# Altium schematic symbol library Pour Over 1.SCHLIB: 28 symbols
Pins are listed as number, name and electrical type; pins without a type are passive.

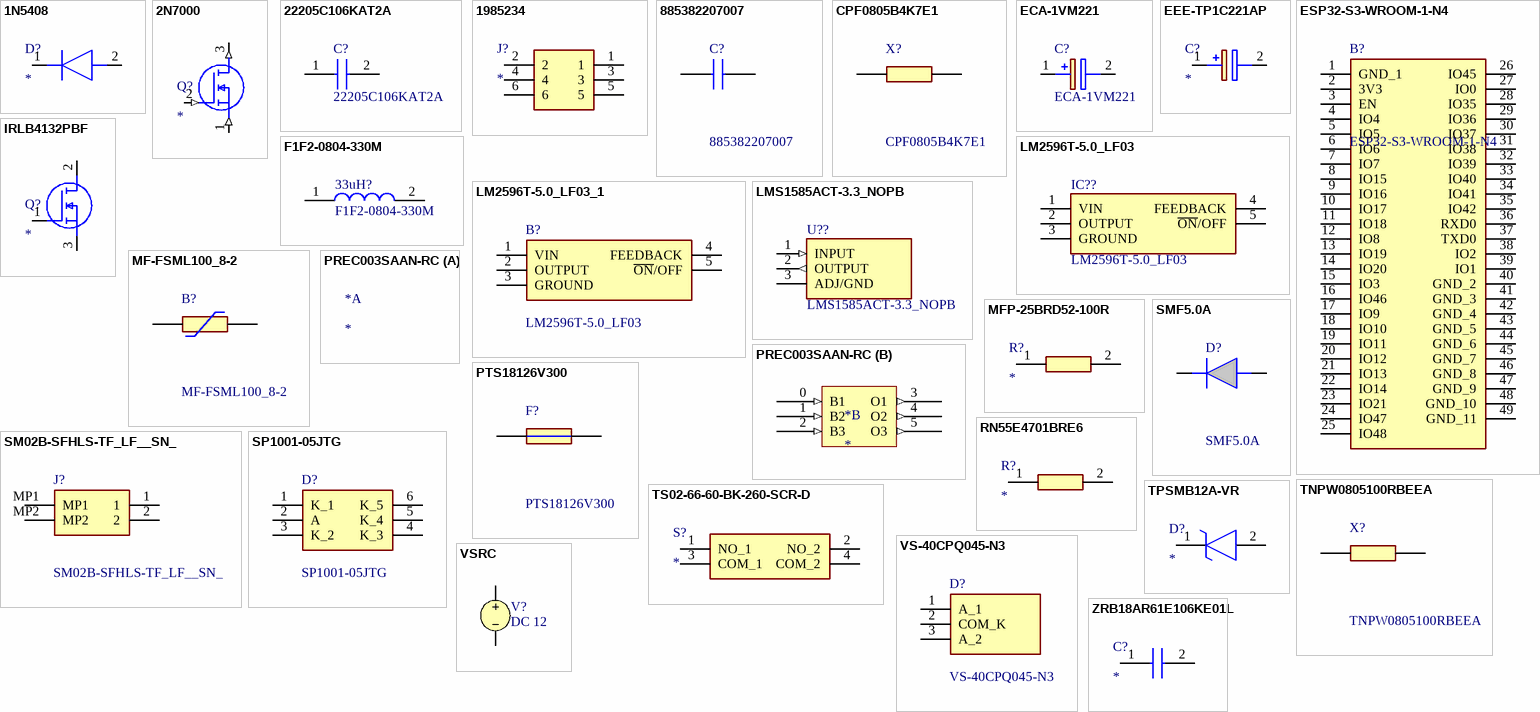
[diagram p0: symbols 1N5408 to ZRB18AR61E106KE01L]

## 1N5408
designator D?
Diode; Manufacturer_Name: HY Electronic; Manufacturer_Part_Number: 1N5408; Description: HY Electronic Corp 1N5408; Datasheet Link: http://uk.rs-online.com/web/p/products/9033315
footprint DIOAD3020W130L900D530
pins: 1 K, 2 A

## 2N7000
designator Q?
MOSFET (N-Channel); Manufacturer_Name: onsemi; Manufacturer_Part_Number: 2N7000; Description: High Density Cell Design for Low RDS(ON); Voltage Controlled Small Signal Switch; High Saturation Current Capability; Rugged and Reliable; Datasheet Link: https://www.onsemi.com/pub/Collateral/NDS7002A-D.PDF; Height: 5.33mm; Mouser Part Number: 512-2N7000; Mouser Price/Stock: https://www.mouser.co.uk/ProductDetail/onsemi-Fairchild/2N7000?qs=FOlmdCx%252BAA2o%2FKZOTk%2F3hg%3D%3D; Arrow Part Number: 2N7000; Arrow Price/Stock: https://www.arrow.com/en/products/2n7000/on-semiconductor.html?utm_currency=USD&region=europe
footprint TO-92_(TO-226)
pins: 1 S (in), 2 G (in), 3 D (out)

## 22205C106KAT2A
designator C?
Capacitor; Manufacturer_Name: Kyocera AVX; Datasheet Link: https://spicat.kyocera-avx.com/product/mlcc/chartview/22205C106KAT2A/DataSheet/X7R; Height: 2.79mm; Manufacturer_Part_Number: 22205C106KAT2A; Mouser Part Number: 581-22205C106KAT2A; Mouser Price/Stock: https://www.mouser.com/Search/Refine.aspx?Keyword=581-22205C106KAT2A; Arrow Part Number: 22205C106KAT2A; Arrow Price/Stock: https://www.arrow.com/en/products/22205c106kat2a/avx
footprint CAPC5750X279N
pins: 1, 2

## 1985234
designator J?
Connector; Manufacturer_Name: Phoenix Contact; Manufacturer_Part_Number: 1985234; Datasheet Link: https://www.phoenixcontact.com/en-us/products/printed-circuit-board-terminal-ptsa-15-6-35-z-1985234?type=pdf; Height: 13.1mm; Mouser Part Number: 651-1985234; Mouser Price/Stock: https://www.mouser.co.uk/ProductDetail/Phoenix-Contact/1985234?qs=A%2FKWGUWTCZgjCof%252B1YY92w%3D%3D; Arrow Part Number: 1985234; Arrow Price/Stock: https://www.arrow.com/en/products/1985234/phoenix-contact.html?utm_currency=USD&region=nac
footprint 1985234
pins: 1, 2, 3, 4, 5, 6

## 885382207007
designator C?
WCAP-CSST Soft Termination MLCC X7R0805104K050DFCT1S000; SMT Chip; 100 nF +/- 10%; 50 V(DC); -55C / +125C; size 0805; LxWxH 2.0 x 1.25 x 1.25; Term. Ag-Polymer/Ni/Sn; Manufacturer_Name: Wurth Elektronik; Geometry.Height: 1.25mm; Mouser Part Number: 710-885382207007; Mouser Price/Stock: https://www.mouser.co.uk/ProductDetail/Wurth-Elektronik/885382207007?qs=0lSvoLzn4L%2FSz5irZYcG7Q%3D%3D; Manufacturer_Part_Number: 885382207007; Datasheet Link: https://www.we-online.com/catalog/datasheet/885382207007.pdf
footprint CAPC2012X125N
pins: 1, 2

## CPF0805B4K7E1
designator X?
Configuration Features: Number of Resistors 1; Manufacturer_Name: TE Connectivity; Geometry.Height: 0.65mm; Mouser Part Number: 279-CPF0805B4K7E1; Mouser Price/Stock: https://www.mouser.co.uk/ProductDetail/TE-Connectivity-Holsworthy/CPF0805B4K7E1?qs=8G8kQhBkhGiesIpPd19ZrQ%3D%3D; Manufacturer_Part_Number: CPF0805B4K7E1; Datasheet Link: https://www.te.com/commerce/DocumentDelivery/DDEController?Action=srchrtrv&DocNm=8-1773459-4_ELEVATOR_ESCALATOR_SOLUTIONS&DocType=Data%20Sheet&DocLang=English&PartCntxt=7-1614884-6&DocFormat=pdf
footprint RESC2012X65N
pins: 1, 2

## ECA-1VM221
designator C?
Capacitor Polarised; Manufacturer_Name: Panasonic; Datasheet Link: http://industrial.panasonic.com/cdbs/www-data/pdf/RDF0000/ABA0000C1218.pdf; Height: 12.5mm; Manufacturer_Part_Number: ECA-1VM221; Mouser Part Number: 667-ECA-1VM221; Mouser Price/Stock: https://www.mouser.co.uk/ProductDetail/Panasonic/ECA-1VM221?qs=TMd%2FqrwkF8jzDq2TCVW7zA%3D%3D; Arrow Part Number: ECA-1VM221; Arrow Price/Stock: https://www.arrow.com/en/products/eca1vm221/panasonic?region=nac
footprint CAPPRD350W65D800H1250
pins: 1 +, 2 -

## EEE-TP1C221AP
designator C?
Capacitor Polarised; Manufacturer_Name: Panasonic; Manufacturer_Part_Number: EEE-TP1C221AP; Datasheet Link: http://industrial.panasonic.com/cdbs/www-data/pdf/RDE0000/ABA0000C1196.pdf; Height: 10.8mm; Mouser Part Number: 667-EEE-TP1C221AP; Mouser Price/Stock: https://www.mouser.com/Search/Refine.aspx?Keyword=667-EEE-TP1C221AP
footprint EEHZT1E331UP
pins: 1 +, 2 -

## ESP32-S3-WROOM-1-N4
designator B?
WiFi Modules - 802.11 [Engineering Samples] SMD Module, ESP32-S3, 4 MB SPI Flash, PCB Antenna; Manufacturer_Name: Espressif Systems; Geometry.Height: 3.25mm; Mouser Part Number: 356-ESP32-S3WROOM1N4; Mouser Price/Stock: https://www.mouser.co.uk/ProductDetail/Espressif-Systems/ESP32-S3-WROOM-1-N4?qs=Li%252BoUPsLEnsO%2FkiJOUK0FQ%3D%3D; Manufacturer_Part_Number: ESP32-S3-WROOM-1-N4; Datasheet Link: https://www.espressif.com/sites/default/files/documentation/esp32-s3-wroom-1_wroom-1u_datasheet_en.pdf
footprint ESP32S3WROOM1N4
pins: 1 GND_1, 2 3V3, 3 EN, 4 IO4, 5 IO5, 6 IO6, 7 IO7, 8 IO15, 9 IO16, 10 IO17, 11 IO18, 12 IO8, 13 IO19, 14 IO20, 15 IO3, 16 IO46, 17 IO9, 18 IO10, 19 IO11, 20 IO12, 21 IO13, 22 IO14, 23 IO21, 24 IO47, 25 IO48, 26 IO45, 27 IO0, 28 IO35, 29 IO36, 30 IO37, 31 IO38, 32 IO39, 33 IO40, 34 IO41, 35 IO42, 36 RXD0, 37 TXD0, 38 IO2, 39 IO1, 40 GND_2, 41 GND_3, 42 GND_4, 43 GND_5, 44 GND_6, 45 GND_7, 46 GND_8, 47 GND_9, 48 GND_10, 49 GND_11

## F1F2-0804-330M
designator 33uH?
Inductor; Manufacturer_Name: Bel; Datasheet Link: https://www.mouser.in/datasheet/3/191/1/ds-ST-F1F2-0804-series.pdf; Height: 4mm; Manufacturer_Part_Number: F1F2-0804-330M
footprint INDPM8680X400N
pins: 1, 2

## IRLB4132PBF
designator Q?
MOSFET (N-Channel); Manufacturer_Name: Infineon; Manufacturer_Part_Number: IRLB4132PBF; Description: MOSFET TRENCH <= 40V HEXFET Power MOSFET TO-220AB; Datasheet Link: https://4donline.ihs.com/images/VipMasterIC/IC/INFN/INFN-S-A0008993592/INFN-S-A0008993592-1.pdf?hkey=6D3A4C79FDBF58556ACFDE234799DDF0; Height: 4.83mm; Mouser Part Number: 942-IRLB4132PBF; Mouser Price/Stock: https://www.mouser.co.uk/ProductDetail/Infineon-Technologies/IRLB4132PBF?qs=7jf4hlN%252BSJAw3gjmC05T%2Fw%3D%3D; Arrow Part Number: IRLB4132PBF; Arrow Price/Stock: https://www.arrow.com/en/products/irlb4132pbf/infineon-technologies-ag.html?utm_currency=USD&region=nac
footprint TO254P483X1016X1994-3P
pins: 1 G, 2 D, 3 S

## LM2596T-5.0_LF03
designator IC??
Integrated Circuit; Manufacturer_Name: Texas Instruments; Manufacturer_Part_Number: LM2596T-5.0/LF03; Datasheet Link: https://www.ti.com/lit/ds/symlink/lm2596.pdf?ts=1607069798907&ref_url=https%253A%252F%252Fwww.ti.com%252Fstore%252Fti%252Fen%252Fp%252Fproduct%252F%253Fp%253DLM2596T-5.0%252FLF03%2526keyMatch%253DLM2596T-5.0%252FLF03%2526tisearch%253DSearch-EN-everything%; Height: 4.7mm; Mouser Part Number: 926-LM2596T-50/LF03; Mouser Price/Stock: https://www.mouser.co.uk/ProductDetail/Texas-Instruments/LM2596T-5.0-LF03?qs=X1J7HmVL2ZG6KM98hB9zGA%3D%3D; Arrow Part Number: LM2596T-5.0/LF03; Arrow Price/Stock: https://www.arrow.com/en/products/lm2596t-5.0lf03/texas-instruments?utm_currency=USD&region=nac
footprint TO170P470X1028X2142-5P
pins: 1 VIN, 2 OUTPUT, 3 GROUND, 4 FEEDBACK, 5 ~{ON}/OFF

## LM2596T-5.0_LF03_1
designator B?, comment LM2596T-5.0_LF03
SIMPLE SWITCHER 4.5V to 40V, 3A Low Component Count Step-Down Regulator; Manufacturer_Name: Texas Instruments; Manufacturer_Part_Number: LM2596T-5.0/LF03; Geometry.Height: 4.7mm; Mouser Part Number: 926-LM2596T-50/LF03; Mouser Price/Stock: https://www.mouser.co.uk/ProductDetail/Texas-Instruments/LM2596T-5.0-LF03?qs=X1J7HmVL2ZG6KM98hB9zGA%3D%3D; Datasheet Link: https://www.ti.com/lit/ds/symlink/lm2596.pdf?ts=1607069798907&ref_url=https%253A%252F%252Fwww.ti.com%252Fstore%252Fti%252Fen%252Fp%252Fproduct%252F%253Fp%253DLM2596T-5.0%252FLF03%2526keyMatch%253DLM2596T-5.0%252FLF03%2526tisearch%253DSearch-EN-everything%
footprint TO170P470X1028X2142-5P
pins: 1 VIN, 2 OUTPUT, 3 GROUND, 4 FEEDBACK, 5 ~{ON}/OFF

## LMS1585ACT-3.3_NOPB
designator U??
Undefined or Miscellaneous; Manufacturer_Name: Texas Instruments; Manufacturer_Part_Number: LMS1585ACT-3.3/NOPB; Datasheet Link: http://www.ti.com/lit/gpn/lms1585a; Height: 4.7mm; Mouser Part Number: 926-LMS1585ACT33NOPB; Mouser Price/Stock: https://www.mouser.co.uk/ProductDetail/Texas-Instruments/LMS1585ACT-3.3-NOPB?qs=7lkVKPoqpbYfezQINhjreg%3D%3D; Arrow Part Number: LMS1585ACT-3.3/NOPB; Arrow Price/Stock: https://www.arrow.com/en/products/lms1585act-3.3nopb/texas-instruments?region=nac
footprint TO254P470X1028X1955-3P
pins: 1 INPUT (in), 2 OUTPUT (out), 3 ADJ/GND (power)

## MF-FSML100_8-2
designator B?
Resettable Fuses - PPTC 8V     1A; Manufacturer_Name: Bourns; Manufacturer_Part_Number: MF-FSML100/8-2; Geometry.Height: 0.7mm; Mouser Part Number: 652-MF-FSML100/8-2; Mouser Price/Stock: https://www.mouser.co.uk/ProductDetail/Bourns/MF-FSML100-8-2?qs=EBDBlbfErPzIwKpEUXHByQ%3D%3D; Datasheet Link: https://www.mouser.in/datasheet/2/54/bourns_05032019_MF-FSML-X_datasheet-1591429.pdf
footprint FUSC1608X70N
pins: 1, 2

## MFP-25BRD52-100R
designator R?
Resistor; Manufacturer_Name: Yageo Group; Manufacturer_Part_Number: MFP-25BRD52-100R; Description: Metal Film Resistors - Through Hole 100ohm 1/4W 0.1%; Datasheet Link: https://www.yageo.com/upload/media/product/productsearch/datasheet/lr/YAGEO%20MFP_datasheet_2021v0.pdf; Mouser Part Number: 603-MFP-25BRD52-100R; Mouser Price/Stock: https://www.mouser.co.uk/ProductDetail/YAGEO/MFP-25BRD52-100R?qs=lfEcNZWccVkSKxBYlhOoug%3D%3D; Arrow Part Number: MFP-25BRD52-100R; Arrow Price/Stock: https://www.arrow.com/en/products/mfp-25brd52-100r/yageo
footprint RESAD1590W70L630D240
pins: 1, 2

## PREC003SAAN-RC
designator *
ESP32 USB Connector
part B pins: 0 B1 (in), 1 B2 (in), 2 B3 (in), 3 O1 (out), 4 O2 (out), 5 O3 (out)

## PTS18126V300
designator F?
PPTC SMD 1812 6V 3.0A; Manufacturer_Name: Eaton; Geometry.Height: 1.2mm; Mouser Part Number: 504-PTS18126V300; Mouser Price/Stock: https://www.mouser.co.uk/ProductDetail/Eaton-Electronics/PTS18126V300?qs=QmibqUXyDhQSUADtV47rkw%3D%3D; Manufacturer_Part_Number: PTS18126V300; Datasheet Link: https://www.eaton.com/content/dam/eaton/products/electronic-components/resources/data-sheet/eaton-pts1812-6-60-volt-dc-surface-mount-resettable-ptc-data-sheet.pdf
footprint FUSC4632X120N
pins: 1, 2

## RN55E4701BRE6
designator R?
Resistor; Manufacturer_Name: Vishay; Manufacturer_Part_Number: RN55E4701BRE6; Description: Metal Film Resistors; Datasheet Link: https://www.vishay.com/docs/31027/cmfmil.pdf
footprint RESAD1526W69L610D229
pins: 1, 2

## SM02B-SFHLS-TF_LF__SN_
designator J?
CONN HEADER SMD R/A 2POS 1.8MM; Manufacturer_Name: JST (JAPAN SOLDERLESS TERMINALS); Manufacturer_Part_Number: SM02B-SFHLS-TF(LF)(SN); Geometry.Height: 3mm; Mouser Part Number: 306-SM02BSFHLSTFLFSN; Mouser Price/Stock: https://www.mouser.co.uk/ProductDetail/JST-Commercial/SM02B-SFHLS-TFLFSN?qs=QpmGXVUTftEFVlI2shSw8Q%3D%3D; Datasheet Link: *
footprint SM02BSFHLSTFLFSN
pins: 1, 2, MP1, MP2

## SMF5.0A
designator D?
LITTELFUSE - SMF5.0A - TVS DIODE, 200W, 5V, UNIDIR, SOD-123FL; Geometry.Height: 1.1mm; Mouser Part Number: 576-SMF5.0A; Mouser Price/Stock: https://www.mouser.co.uk/ProductDetail/Littelfuse/SMF5.0A?qs=w7s0xA%252BTU%2FHYt6%2FEHP8V9g%3D%3D; Manufacturer_Name: LITTELFUSE; Manufacturer_Part_Number: SMF5.0A; Datasheet Link: https://componentsearchengine.com/Datasheets/2/SMF5.0A.pdf
footprint SODFL3618X110N
pins: 1 K, 2 A

## SP1001-05JTG
designator D?
ESD Suppressors / TVS Diodes 5 channels; Manufacturer_Name: LITTELFUSE; Geometry.Height: 1.1mm; Mouser Part Number: 576-SP1001-05JTG; Mouser Price/Stock: https://www.mouser.co.uk/ProductDetail/Littelfuse/SP1001-05JTG?qs=Xb8IjHhkxj4iFx7zG5GEZA%3D%3D; Manufacturer_Part_Number: SP1001-05JTG; Datasheet Link: https://componentsearchengine.com/Datasheets/2/SP1001-05JTG.pdf
footprint SOT65P220X110-6N
pins: 1 K_1, 2 A, 3 K_2, 4 K_3, 5 K_4, 6 K_5

## TNPW0805100RBEEA
designator X?
VISHAY - TNPW0805100RBEEA - RES, THIN FILM, 100R, 0.1%, 0.125W, 0805; Geometry.Height: 0.55mm; Mouser Part Number: 71-TNPW0805100RBEEA; Mouser Price/Stock: https://www.mouser.co.uk/ProductDetail/Vishay-Dale/TNPW0805100RBEEA?qs=CqEPuS5aiX%2FTdzUNace1OQ%3D%3D; Manufacturer_Name: Vishay; Manufacturer_Part_Number: TNPW0805100RBEEA; Datasheet Link: http://www.vishay.com/docs/31006/tnpw.pdf
footprint RESC2012X55N
pins: 1, 2

## TPSMB12A-VR
designator D?
TVS Diode (Uni-directional); Manufacturer_Name: LITTELFUSE; Manufacturer_Part_Number: TPSMB12A-VR; Datasheet Link: http://www.littelfuse.com/~/media/electronics/datasheets/tvs_diodes/littelfuse_tvs_diode_tpsmb_vr_datasheet.pdf.pdf; Height: 2.44mm; Mouser Part Number: 576-TPSMB12A-VR; Mouser Price/Stock: https://www.mouser.co.uk/ProductDetail/Littelfuse/TPSMB12A-VR?qs=AQlKX63v8RvODBvNBGUrbg%3D%3D; Arrow Part Number: TPSMB12A-VR; Arrow Price/Stock: https://www.arrow.com/en/products/tpsmb12a-vr/littelfuse?region=europe
footprint DIOM5436X244N
pins: 1 K, 2 A

## TS02-66-60-BK-260-SCR-D
designator S?
Switch; Manufacturer_Name: Same Sky; Manufacturer_Part_Number: TS02-66-60-BK-260-SCR-D; Description: 6 x 6 mm; Datasheet Link: https://www.sameskydevices.com/product/resource/ts02.pdf; Height: 6.2mm; Mouser Part Number: 179-TS026660BK260SCR; Mouser Price/Stock: https://www.mouser.co.uk/ProductDetail/CUI-Devices/TS02-66-60-BK-260-SCR-D?qs=A6eO%252BMLsxmSDYX3TQ5KZSA%3D%3D; Arrow Part Number: TS02-66-60-BK-260-SCR-D; Arrow Price/Stock: https://www.arrow.com/en/products/ts02-66-60-bk-260-scr-d/cui-devices?region=nac
footprint TS026660BK260SCRD
pins: 1 NO_1, 2 NO_2, 3 COM_1, 4 COM_2

## VS-40CPQ045-N3
designator D?
Schottky Diodes & Rectifiers Schottky - TO-247-e3; Manufacturer_Name: Vishay; Geometry.Height: 5.31mm; Mouser Part Number: 78-VS-40CPQ045-N3; Mouser Price/Stock: https://www.mouser.com/Search/Refine.aspx?Keyword=78-VS-40CPQ045-N3; Manufacturer_Part_Number: VS-40CPQ045-N3; Datasheet Link: https://www.vishay.com/docs/96456/vs-40cpq-n3series.pdf
footprint TO546P531X1558X2499-3P
pins: 1 A_1, 2 COM_K, 3 A_2

## VSRC
designator V?, comment DC 12
Voltage Source; Note: PCB Footprint - Not required; AC Magnitude: 1; AC Phase: 0; Value: 12; Published: 8-Jun-2000; LatestRevisionDate: 17-Jul-2002; LatestRevisionNote: Re-released for DXP Platform.; PackageReference: Not Applicable; Publisher: Altium Limited
simulation model VSRC
pins: 1, 2

## ZRB18AR61E106KE01L
designator C?
Capacitor; Manufacturer_Name: Murata Electronics; Manufacturer_Part_Number: ZRB18AR61E106KE01L; Datasheet Link: https://search.murata.co.jp/Ceramy/image/img/A01X/G101/ENG/ZRB18AR61E106KE01-02A.pdf; Height: 1.2mm
footprint ZRB18x
pins: 1, 2